# Altium schematic symbol library 0603 20K.Schlib: 1 symbol
Pins are listed as number, name and electrical type; pins without a type are passive.

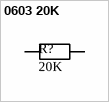
[diagram p0: symbol 0603 20K]

## 0603 20K
designator R?, comment value 20K  (hidden comment: Resistor)
Chip Resistor - Surface Mount 20KOhms ±1% 1/10W 0603 RoHS; LCSC Part #: C4184
footprint RES 0603_1608 (Chip Resistor, 2-Leads, Body 1.60x0.80mm, IPC Medium Density)
pins: 1, 2